# Altium schematic symbol library ss.SchLib: 6 symbols
Pins are listed as number, name and electrical type; pins without a type are passive.

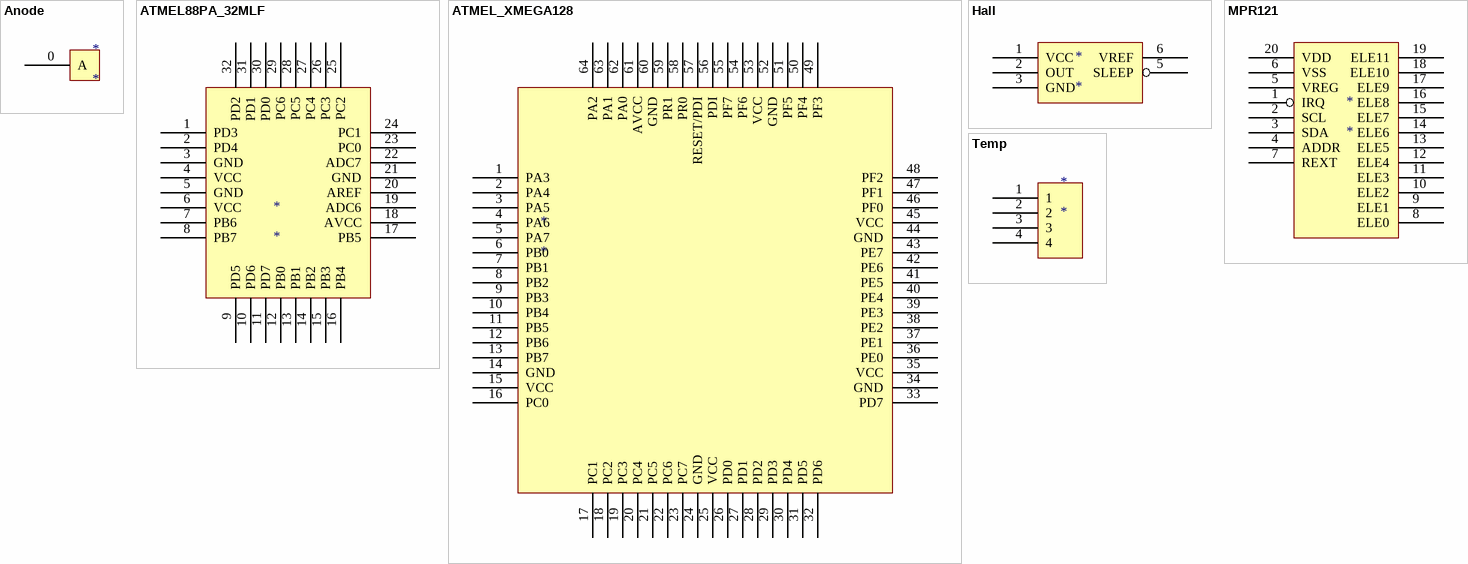
[diagram p0: symbols Anode to Temp]

## Anode
designator *
footprint Anode
footprint PCBComponent_1
pins: 0 A

## ATMEL88PA_32MLF
designator *
footprint atmel_32M1-A (QFN, 32-Leads, Body 5.1x5.1mm (max), Pitch 0.50mm, IPC Medium Density)
pins: 1 PD3, 2 PD4, 3 GND, 4 VCC, 5 GND, 6 VCC, 7 PB6, 8 PB7, 9 PD5, 10 PD6, 11 PD7, 12 PB0, 13 PB1, 14 PB2, 15 PB3, 16 PB4, 17 PB5, 18 AVCC, 19 ADC6, 20 AREF, 21 GND, 22 ADC7, 23 PC0, 24 PC1, 25 PC2, 26 PC3, 27 PC4, 28 PC5, 29 PC6, 30 PD0, 31 PD1, 32 PD2

## ATMEL_XMEGA128
designator *
pins: 1 PA3, 2 PA4, 3 PA5, 4 PA6, 5 PA7, 6 PB0, 7 PB1, 8 PB2, 9 PB3, 10 PB4, 11 PB5, 12 PB6, 13 PB7, 14 GND, 15 VCC, 16 PC0, 17 PC1, 18 PC2, 19 PC3, 20 PC4, 21 PC5, 22 PC6, 23 PC7, 24 GND, 25 VCC, 26 PD0, 27 PD1, 28 PD2, 29 PD3, 30 PD4, 31 PD5, 32 PD6, 33 PD7, 34 GND, 35 VCC, 36 PE0, 37 PE1, 38 PE2, 39 PE3, 40 PE4, 41 PE5, 42 PE6, 43 PE7, 44 GND, 45 VCC, 46 PF0, 47 PF1, 48 PF2, 49 PF3, 50 PF4, 51 PF5, 52 GND, 53 VCC, 54 PF6, 55 PF7, 56 PDI, 57 RESET/PDI, 58 PR0, 59 PR1, 60 GND, 61 AVCC, 62 PA0, 63 PA1, 64 PA2

## Hall
designator *
620-11-ND Hall Effect
footprint HALL (Hall Effect sensor)
pins: 1 VCC, 2 OUT, 3 GND, 5 SLEEP, 6 VREF

## MPR121
designator *
footprint QFN40P300X300X60-20N (QFN, 20-Leads, Body 3.0x3.0mm (max), Pitch 0.40mm, IPC Medium Density)
pins: 1 IRQ, 2 SCL, 3 SDA, 4 ADDR, 5 VREG, 6 VSS, 7 REXT, 8 ELE0, 9 ELE1, 10 ELE2, 11 ELE3, 12 ELE4, 13 ELE5, 14 ELE6, 15 ELE7, 16 ELE8, 17 ELE9, 18 ELE10, 19 ELE11, 20 VDD

## Temp
designator *
497-5814-1-ND Temperature sensor
footprint QFN50P100X130X55-4N (QFN, 4-Leads, Body 1.4x1.0mm (max), Pitch 0.50mm, IPC Medium Density)
pins: 1, 2, 3, 4